# Altium schematic symbol library SCH - BATTERY MANAGEMENT - XB7608A.SchLib: 1 symbol
Pins are listed as number, name and electrical type; pins without a type are passive.

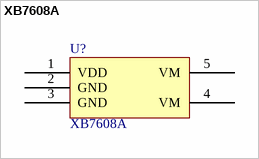
[diagram p0: symbol XB7608A]

## XB7608A
designator U?
CPC-5 Battery Management IC
footprint PCB - LEADED - XYSEMI CPC5 (POD-CPC5)
pins: 1 VDD, 2 GND, 3 GND, 4 VM, 5 VM